# Altium footprint library VSSOP.PcbLib: 1 footprints
Each footprint in its own frame and in the unit in brackets; x right, y up, seen from the top. Pads: shape width x height; smd on the part's side, far side on the other; paste and mask are expansions set on the pad; w line width, h text height; cw(c..) or ccw(c..) is an arc to the next point about the centre after c.
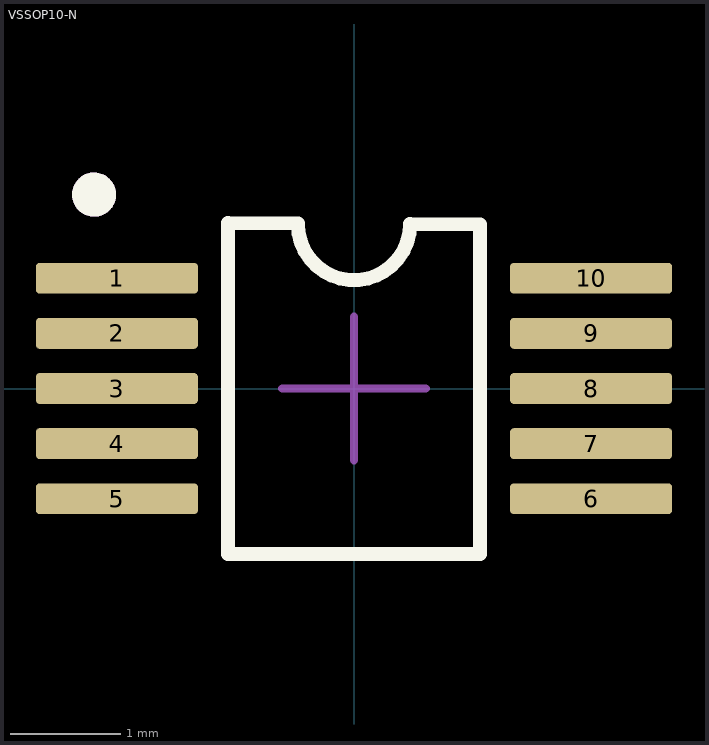
[diagram p0: the footprint, top view; thin cyan lines are the x and y axes]

## VSSOP10-N [mm] "1.1 mm max height"
height 5
pads (10):
  rrect25% 1.47x0.28 smd: 1(-2.15,1) 2(-2.15,0.5) 3(-2.15,0) 4(-2.15,-0.5) 5(-2.15,-1) 6(2.15,-1) 7(2.15,-0.5) 8(2.15,0) 9(2.15,0.5) 10(2.15,1)
Top Overlay:
  circle w0.2: c-2.357,1.758 r0.1
  lines w0.127: -0.508,1.49 ccw(c0,1.49) 0.508,1.49 1.143,1.488 1.143,-1.5 -1.143,-1.5 -1.143,1.5 -0.508,1.498
Mechanical 13:
  circle w0.2: c-2.357,1.758 r0.1
Mechanical 15:
  lines w0.076: -0.65,0 0.65,0 ; 0,-0.65 0,0.65
3D body "ADS1115IDGSR.STEP": height 1.1, standoff 0, extent -2.45,-1.5 2.45,1.5